# EAGLE library part TLC59116 (library rfglow-esp32)
TLC59116IPWR
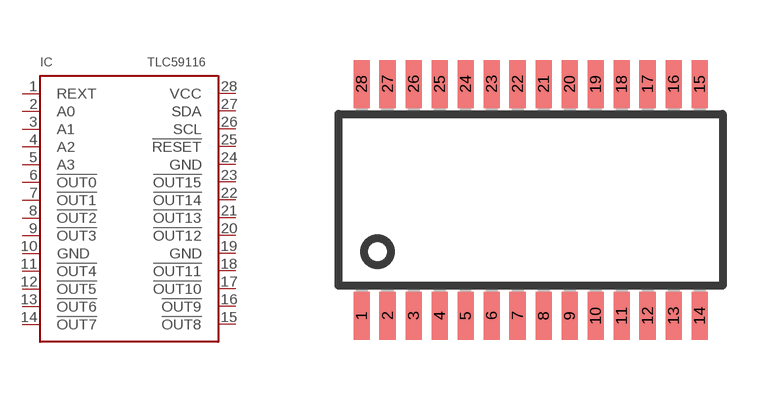
[diagram p0: symbol with the pads of PW_R-PDSO-G28; footprint PW_R-PDSO-G28]

Designator prefix IC

## TLC59116PW (MPN: TLC59116IPWR; URL: https://lcsc.com/product-detail/LED-Drivers_TI_TLC59116IPWR_TLC59116IPWR_C131194.html)  [PW_R-PDSO-G28]
1  REXT
2  A0
3  A1
4  A2
5  A3
6  !OUT0
7  !OUT1
8  !OUT2
9  !OUT3
10  GND
11  !OUT4
12  !OUT5
13  !OUT6
14  !OUT7
15  !OUT8
16  !OUT9
17  !OUT10
18  !OUT11
19  GND
20  !OUT12
21  !OUT13
22  !OUT14
23  !OUT15
24  GND
25  !RESET
26  SCL
27  SDA
28  VCC

## Footprint PW_R-PDSO-G28 (pad centres in mm)
PLASTIC SMALL-OUTLINE PACKAGE SO 28 JEDEC MO-153, PW Type Source: www.ti.com/.. slvs087l.pdf
smd 0.4 x 1.2: 1 -4.225,-2.9; 2 -3.575,-2.9; 3 -2.925,-2.9; 4 -2.275,-2.9; 5 -1.625,-2.9; 6 -0.975,-2.9; 7 -0.325,-2.9; 8 0.325,-2.9; 9 0.975,-2.9; 10 1.625,-2.9; 11 2.275,-2.9; 12 2.925,-2.9; 13 3.575,-2.9; 14 4.225,-2.9; 15 4.225,2.9; 16 3.575,2.9; 17 2.925,2.9; 18 2.275,2.9; 19 1.625,2.9; 20 0.975,2.9; 21 0.325,2.9; 22 -0.325,2.9; 23 -0.975,2.9; 24 -1.625,2.9; 25 -2.275,2.9; 26 -2.925,2.9; 27 -3.575,2.9; 28 -4.225,2.9